# Altium footprint library EceParts.PcbLib: 92 footprints (part 3 of 6)
Each footprint in its own frame and in the unit in brackets; x right, y up, seen from the top. Pads: shape width x height; smd on the part's side, far side on the other; paste and mask are expansions set on the pad; w line width, h text height; cw(c..) or ccw(c..) is an arc to the next point about the centre after c.
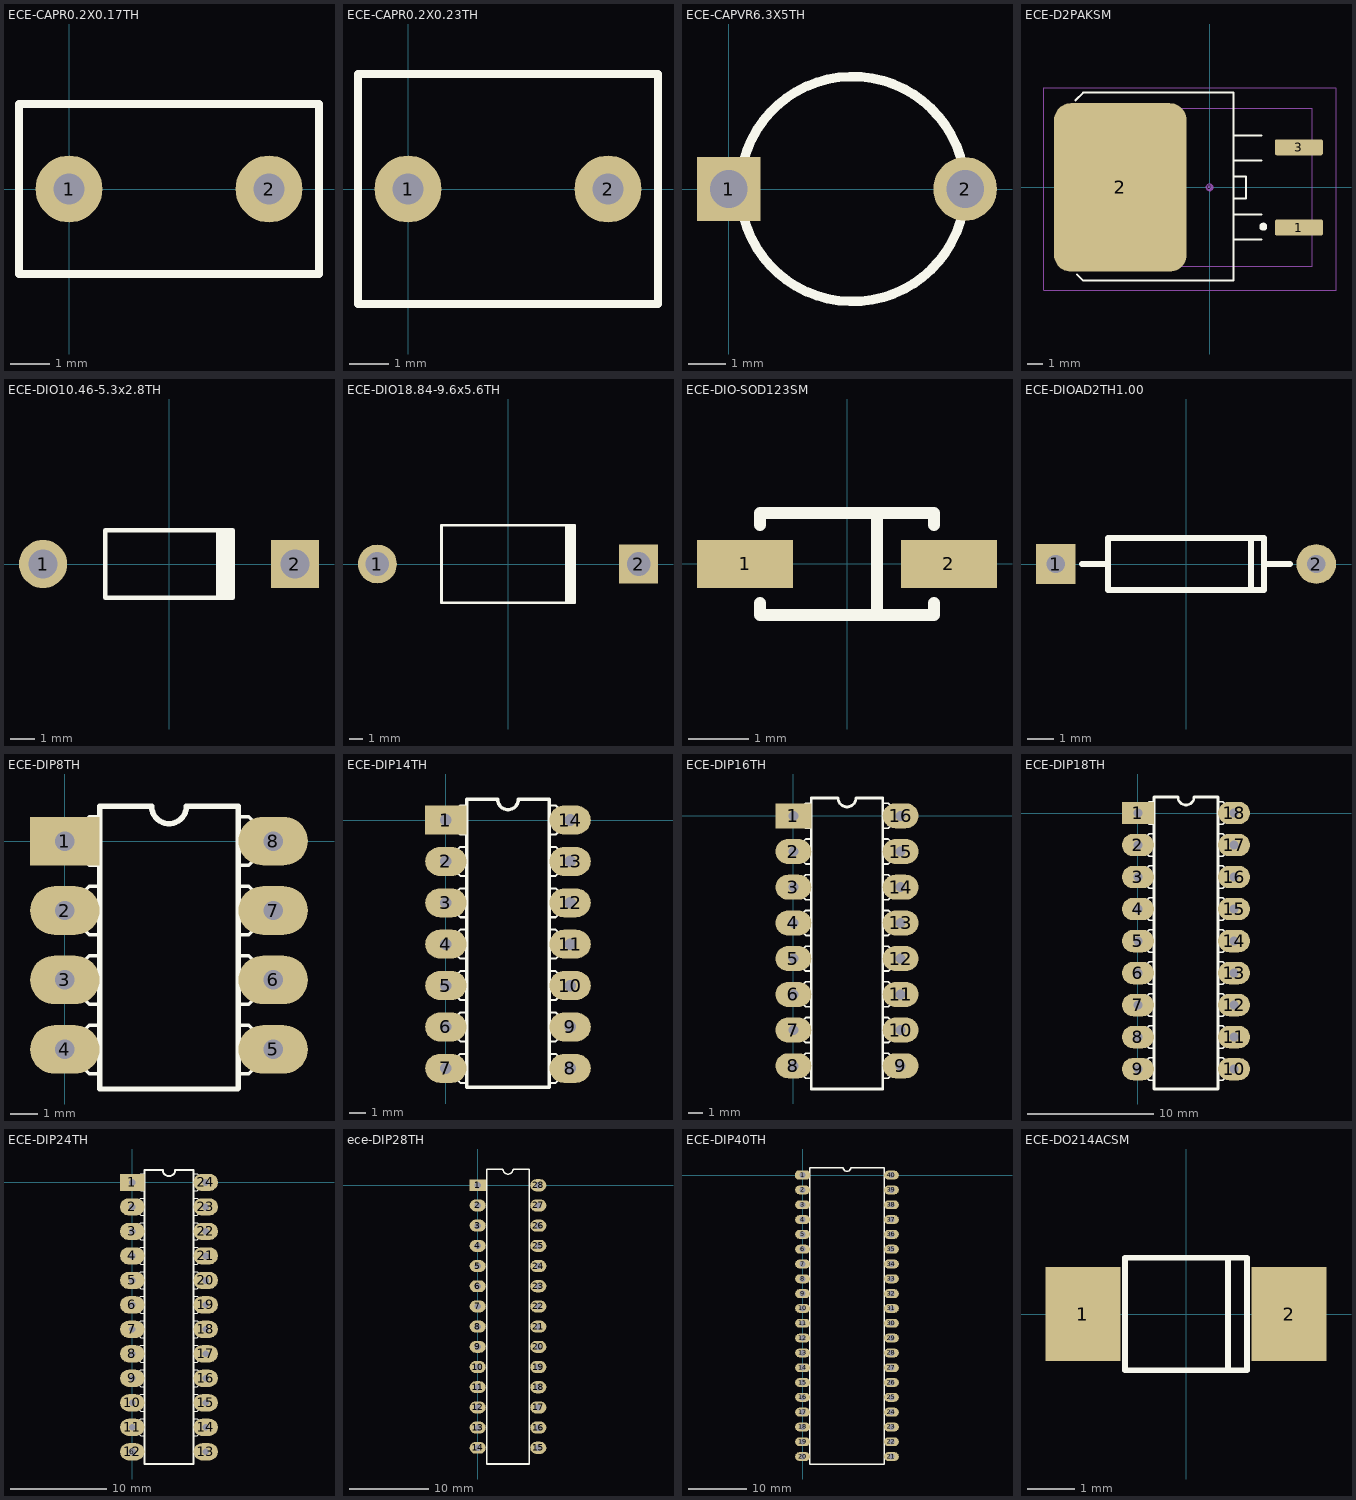
[diagram p2: the footprints below, top view; thin cyan lines are the x and y axes]

## ECE-CAPR0.2X0.17TH [mm] "Radial non polarised Capacitor"
height 5.08
pads (2):
  round 1.7 hole 0.8: 1(0,0) 2(5.08,0)
Top Overlay:
  lines w0.2: -1.27,-2.159 6.35,-2.159 6.35,2.159 -1.27,2.159 -1.27,-2.159

## ECE-CAPR0.2X0.23TH [mm] "Radial non polarised Capacitor"
height 5.08
pads (2):
  round 1.7 hole 0.8: 1(0,0) 2(5.08,0)
Top Overlay:
  lines w0.2: -1.27,-2.921 -1.27,2.921 6.35,2.921 6.35,-2.921 -1.27,-2.921

## ECE-CAPVR6.3X5TH [mm] "Variable Capacitor, 6mm dia Thru-Hole;"
height 5
pads (2):
  rect 1.7x1.7 hole 1: 1(0,0)
  round 1.7 hole 1: 2(6.3,0)
Top Overlay:
  circle w0.254: c3.3,0 r3

## ECE-D2PAKSM [mil] "D-PAK/TO-263-3; 3 Leads (1 Cropped); Body 14.7 (inc. leads) x 10.2 mm (LxW max)"
height 180
pads (4):
  round 20 on Mech15: 0(0,0)
  rrect25% 120x40 smd: 1(222.5,-100) 3(222.5,100)
  rrect25% 330x420 smd: 2(-222.5,0)
Top Overlay:
  circle w9.84: c133.8,-97.83 r4.92
  lines w5: -334.65,216.54 -314.96,236.22 59.06,236.22 59.06,-232.28 -314.96,-232.28 -330.71,-216.54 ; 129.92,-129.92 59.06,-129.92 59.06,-66.93 129.92,-66.93 ; 129.92,66.93 59.06,66.93 59.06,129.92 129.92,129.92 ; 59.06,-27.56 90.55,-27.56 90.55,27.56 59.06,27.56 59.06,-27.56
Mechanical 13:
  lines w3: -361.41,-196.85 -361.41,196.85 255.51,196.85 255.51,-196.85 -361.41,-196.85
Mechanical 15:
  lines w3: -413.39,-255.91 314.96,-255.91 314.96,248.03 -413.39,248.03 -413.39,-255.91
3D body: height 189.36, standoff 0.39, extent -361.41,-196.85 255.51,196.85

## ECE-DIO10.46-5.3x2.8TH [mm] "Diode, Axial; Body 5.2 x 2.7 mm (LxDia. max), Lead Dia. 0.86 mm (max)"
height 2.8
pads (2):
  round 2 hole 1.2: 1(-5.23,0)
  rect 2x2 hole 1.2: 2(5.23,0)
Top Overlay:
  rectangle: 1.95,-1.4 2.75,1.4
  lines w0.2: 2.65,-1.4 -2.65,-1.4 -2.65,1.4 2.65,1.4

## ECE-DIO18.84-9.6x5.6TH [mm] "Diode, Axial; Body 9.5 x 5.6 mm (LxDia. max), Lead Dia. 1.32 mm (max)"
height 5.6
pads (2):
  round 2.8 hole 1.7: 1(-9.42,0)
  rect 2.8x2.8 hole 1.7: 2(9.42,0)
Top Overlay:
  rectangle: 4.1,-2.8 4.9,2.8
  lines w0.2: 4.8,-2.8 -4.8,-2.8 -4.8,2.8 4.8,2.8

## ECE-DIO-SOD123SM [mm] "SOD-123; 2 Leads; Body 2.7 x 1.6 mm, (LxW)"
height 1.35
pads (2):
  rect 1.6x0.8 smd: 1(-1.7,0) 2(1.7,0)
Top Overlay:
  lines w0.2: -1.45,-0.65 -1.45,-0.85 1.45,-0.85 1.45,-0.65 ; -1.45,0.65 -1.45,0.85 1.45,0.85 1.45,0.65 ; 0.5,-0.85 0.5,0.85

## ECE-DIOAD2TH1.00 [mil] "Axial 10mm diode"
pads (2):
  rect 60x60 hole 27.56: 1(-196.85,0)
  round 60 hole 27.56: 2(196.85,0)
Top Overlay:
  lines w9.06: -157.48,0 -118.11,0 ; 98.43,-39.37 98.43,39.37 ; 118.11,-39.37 -118.11,-39.37 -118.11,39.37 118.11,39.37 ; 118.11,-38.39 118.11,37.4 ; 118.11,0 157.48,0

## ECE-DIP8TH [mil] "8 pin Dual in line"
pads (8):
  rect 100x70 hole 28: 1(0,0)
  oval 100x70 hole 28: 2(0,-100) 3(0,-200) 4(0,-300) 5(300,-300) 6(300,-200) 7(300,-100) 8(300,0)
Top Overlay:
  lines w5: 50,-335 35,-335 15,-315 0,-315 0,-285 15,-285 35,-265 50,-265 ; 50,-235 35,-235 15,-215 0,-215 0,-185 15,-185 35,-165 50,-165 ; 50,-135 35,-135 15,-115 0,-115 0,-85 15,-85 35,-65 50,-65 ; 50,-35 35,-35 15,-15 0,-15 0,15 15,15 35,35 50,35 ; 250,-335 265,-335 285,-315 300,-315 300,-285 285,-285 265,-265 250,-265 ; 250,-235 265,-235 285,-215 300,-215 300,-185 285,-185 265,-165 250,-165 ; 250,-135 265,-135 285,-115 300,-115 300,-85 285,-85 265,-65 250,-65 ; 250,-35 265,-35 285,-15 300,-15 300,15 285,15 265,35 250,35
  lines w7.87: 50,50 50,-357.09 249.21,-357.09 ; 250,-356.3 250,50
  lines w8: 50,50 125,50 ccw(c150,50) 175,50 250,50

## ECE-DIP14TH [mil] "14 pin Dual in line"
pads (14):
  rect 100x70 hole 28: 1(0,0)
  oval 100x70 hole 28: 2(0,-100) 3(0,-200) 4(0,-300) 5(0,-400) 6(0,-500) 7(0,-600) 8(300,-600) 9(300,-500) 10(300,-400) 11(300,-300) 12(300,-200) 13(300,-100) 14(300,0)
Top Overlay:
  lines w5: 50,-635 35,-635 15,-615 0,-615 0,-585 15,-585 35,-565 50,-565 ; 50,-535 35,-535 15,-515 0,-515 0,-485 15,-485 35,-465 50,-465 ; 50,-435 35,-435 15,-415 0,-415 0,-385 15,-385 35,-365 50,-365 ; 50,-335 35,-335 15,-315 0,-315 0,-285 15,-285 35,-265 50,-265 ; 50,-235 35,-235 15,-215 0,-215 0,-185 15,-185 35,-165 50,-165 ; 50,-135 35,-135 15,-115 0,-115 0,-85 15,-85 35,-65 50,-65 ; 50,-35 35,-35 15,-15 0,-15 0,15 15,15 35,35 50,35 ; 250,-635 265,-635 285,-615 300,-615 300,-585 285,-585 265,-565 250,-565 ; 250,-535 265,-535 285,-515 300,-515 300,-485 285,-485 265,-465 250,-465 ; 250,-435 265,-435 285,-415 300,-415 300,-385 285,-385 265,-365 250,-365 ; 250,-335 265,-335 285,-315 300,-315 300,-285 285,-285 265,-265 250,-265 ; 250,-235 265,-235 285,-215 300,-215 300,-185 285,-185 265,-165 250,-165 ; 250,-135 265,-135 285,-115 300,-115 300,-85 285,-85 265,-65 250,-65 ; 250,-35 265,-35 285,-15 300,-15 300,15 285,15 265,35 250,35
  lines w8: 50,-645.67 50,50 125,50 ccw(c150,50) 175,50 250,50 250,-645.67 50,-645.67

## ECE-DIP16TH [mil] "16 pin Dual in line"
pads (16):
  rect 100x70 hole 28: 1(0,0)
  oval 100x70 hole 28: 2(0,-100) 3(0,-200) 4(0,-300) 5(0,-400) 6(0,-500) 7(0,-600) 8(0,-700) 9(300,-700) 10(300,-600) 11(300,-500) 12(300,-400) 13(300,-300) 14(300,-200) 15(300,-100) 16(300,0)
Top Overlay:
  lines w5: 50,-735 35,-735 15,-715 0,-715 0,-685 15,-685 35,-665 50,-665 ; 50,-635 35,-635 15,-615 0,-615 0,-585 15,-585 35,-565 50,-565 ; 50,-535 35,-535 15,-515 0,-515 0,-485 15,-485 35,-465 50,-465 ; 50,-435 35,-435 15,-415 0,-415 0,-385 15,-385 35,-365 50,-365 ; 50,-335 35,-335 15,-315 0,-315 0,-285 15,-285 35,-265 50,-265 ; 50,-235 35,-235 15,-215 0,-215 0,-185 15,-185 35,-165 50,-165 ; 50,-135 35,-135 15,-115 0,-115 0,-85 15,-85 35,-65 50,-65 ; 50,-35 35,-35 15,-15 0,-15 0,15 15,15 35,35 50,35 ; 250,-735 265,-735 285,-715 300,-715 300,-685 285,-685 265,-665 250,-665 ; 250,-635 265,-635 285,-615 300,-615 300,-585 285,-585 265,-565 250,-565 ; 250,-535 265,-535 285,-515 300,-515 300,-485 285,-485 265,-465 250,-465 ; 250,-435 265,-435 285,-415 300,-415 300,-385 285,-385 265,-365 250,-365 ; 250,-335 265,-335 285,-315 300,-315 300,-285 285,-285 265,-265 250,-265 ; 250,-235 265,-235 285,-215 300,-215 300,-185 285,-185 265,-165 250,-165 ; 250,-135 265,-135 285,-115 300,-115 300,-85 285,-85 265,-65 250,-65 ; 250,-35 265,-35 285,-15 300,-15 300,15 285,15 265,35 250,35
  lines w8: 50,-765 250,-765 250,50 175,50 cw(c150,50) 125,50 50,50 50,-765

## ECE-DIP18TH [mil] "18 pin Dual in line"
pads (18):
  rect 100x70 hole 28: 1(0,0)
  oval 100x70 hole 28: 2(0,-100) 3(0,-200) 4(0,-300) 5(0,-400) 6(0,-500) 7(0,-600) 8(0,-700) 9(0,-800) 10(300,-800) 11(300,-700) 12(300,-600) 13(300,-500) 14(300,-400) 15(300,-300) 16(300,-200) 17(300,-100) 18(300,0)
Top Overlay:
  lines w5: 50,-835 35,-835 15,-815 0,-815 0,-785 15,-785 35,-765 50,-765 ; 50,-735 35,-735 15,-715 0,-715 0,-685 15,-685 35,-665 50,-665 ; 50,-635 35,-635 15,-615 0,-615 0,-585 15,-585 35,-565 50,-565 ; 50,-535 35,-535 15,-515 0,-515 0,-485 15,-485 35,-465 50,-465 ; 50,-435 35,-435 15,-415 0,-415 0,-385 15,-385 35,-365 50,-365 ; 50,-335 35,-335 15,-315 0,-315 0,-285 15,-285 35,-265 50,-265 ; 50,-235 35,-235 15,-215 0,-215 0,-185 15,-185 35,-165 50,-165 ; 50,-135 35,-135 15,-115 0,-115 0,-85 15,-85 35,-65 50,-65 ; 50,-35 35,-35 15,-15 0,-15 0,15 15,15 35,35 50,35 ; 250,-835 265,-835 285,-815 300,-815 300,-785 285,-785 265,-765 250,-765 ; 250,-735 265,-735 285,-715 300,-715 300,-685 285,-685 265,-665 250,-665 ; 250,-635 265,-635 285,-615 300,-615 300,-585 285,-585 265,-565 250,-565 ; 250,-535 265,-535 285,-515 300,-515 300,-485 285,-485 265,-465 250,-465 ; 250,-435 265,-435 285,-415 300,-415 300,-385 285,-385 265,-365 250,-365 ; 250,-335 265,-335 285,-315 300,-315 300,-285 285,-285 265,-265 250,-265 ; 250,-235 265,-235 285,-215 300,-215 300,-185 285,-185 265,-165 250,-165 ; 250,-135 265,-135 285,-115 300,-115 300,-85 285,-85 265,-65 250,-65 ; 250,-35 265,-35 285,-15 300,-15 300,15 285,15 265,35 250,35
  lines w8: 50,-862.2 250,-862.2 250,50 175,50 cw(c150,50) 125,50 50,50 50,-862.2

## ECE-DIP24TH [mil] "24 pin Dual in line"
pads (25):
  rect 100x70 hole 28: 1(0,0)
  oval 100x70 hole 28: 2(0,-100) 3(0,-200) 4(0,-300) 5(0,-400) 6(0,-500) 7(0,-600) 8(0,-700) 9(0,-800) 10(0,-900) 11(0,-1000) 12(0,-1100) 13(300,-1100) 14(300,-1000) 15(300,-900) 16(300,-800) 17(300,-700) 18(300,-600) 19(300,-500) 20(300,-400) 21(300,-300) 22(300,-200) 23(300,-100) 24(300,0)
  round 40 hole 30: 6(0,-1100)
Top Overlay:
  drawing of 160 lines, arcs and shapes, not listed

## ece-DIP28TH [mil] "28 pin Dual in line"
pads (28):
  rect 80x59.06 hole 31.5: 1(0,0)
  oval 80x59.05 hole 31.5: 2(0,-100) 3(0,-200) 4(0,-300) 5(0,-400) 6(0,-500) 7(0,-600) 8(0,-700) 9(0,-800) 10(0,-900) 11(0,-1000) 12(0,-1100) 13(0,-1200) 14(0,-1300)
  oval 80x60 hole 31.5: 15(300,-1300) 16(300,-1200) 17(300,-1100) 18(300,-1000) 19(300,-900) 20(300,-800) 21(300,-700) 22(300,-600) 23(300,-500) 24(300,-400) 25(300,-300) 26(300,-200) 27(300,-100) 28(300,0)
Top Overlay:
  lines w7.87: 45.67,-1380.32 45.67,80.31 125,80.31 ccw(c150,80.31) 175,80.31 254.33,80.31 254.33,-1380.32 45.67,-1380.32

## ECE-DIP40TH [mil] "40 pin Dual in line wide"
pads (40):
  oct 100x60 hole 40: 1(-0.5,-0.5)
  oval 100x60 hole 40: 2(-0.5,-100.5) 3(-0.5,-200.5) 4(-0.5,-300.5) 5(-0.5,-400.5) 6(-0.5,-500.5) 7(-0.5,-600.5) 8(-0.5,-700.5) 9(-0.5,-800.5) 10(-0.5,-900.5) 11(-0.5,-1000.5) 12(-0.5,-1100.5) 13(-0.5,-1200.5) 14(-0.5,-1300.5) 15(-0.5,-1400.5) 16(-0.5,-1500.5) 17(-0.5,-1600.5) 18(-0.5,-1700.5) 19(-0.5,-1800.5) 20(-0.5,-1900.5) 21(599.5,-1900.5) 22(599.5,-1800.5) 23(599.5,-1700.5) 24(599.5,-1600.5) 25(599.5,-1500.5) 26(599.5,-1400.5) 27(599.5,-1300.5) 28(599.5,-1200.5) 29(599.5,-1100.5) 30(599.5,-1000.5) 31(599.5,-900.5) 32(599.5,-800.5) 33(599.5,-700.5) 34(599.5,-600.5) 35(599.5,-500.5) 36(599.5,-400.5) 37(599.5,-300.5) 38(599.5,-200.5) 39(599.5,-100.5) 40(599.5,-0.5)
Top Overlay:
  lines w10: 49.5,-1950.5 549.5,-1950.5 549.5,49.5 324.5,49.5 cw(c299.5,49.5) 274.5,49.5 49.5,49.5 49.5,-1950.5

## ECE-DO214ACSM [mm] "JEDEC DO214AC body 2.7X5.3X2.6"
height 2.6
pads (2):
  rect 1.6x2 smd: 1(-2.2,0) 2(2.2,0)
Top Overlay:
  lines w0.127: -1.3,-0.1 -1.3,1.2 1.3,1.2 1.3,-0.1 ; -1.3,0 -1.3,-1.2 1.3,-1.2 1.3,0 ; 0.9,-1.2 0.9,0.1 ; 0.9,0 0.9,1.2